# Altium schematic symbol library SCH - PASSIVES - L_COILCRAFT_XFL4020.SCHLIB: 1 symbol
Pins are listed as number, name and electrical type; pins without a type are passive.

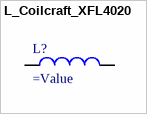
[diagram p0: symbol L_Coilcraft_XFL4020]

## L_Coilcraft_XFL4020
designator L?
Fixed Inductors 1uH 20% 11A 11.9mOhms AEC-Q200
pins: 1, 2